# Altium footprint library TheRightUSBC.PcbLib: 1 footprints
Each footprint in its own frame and in the unit in brackets; x right, y up, seen from the top. Pads: shape width x height; smd on the part's side, far side on the other; paste and mask are expansions set on the pad; w line width, h text height; cw(c..) or ccw(c..) is an arc to the next point about the centre after c.
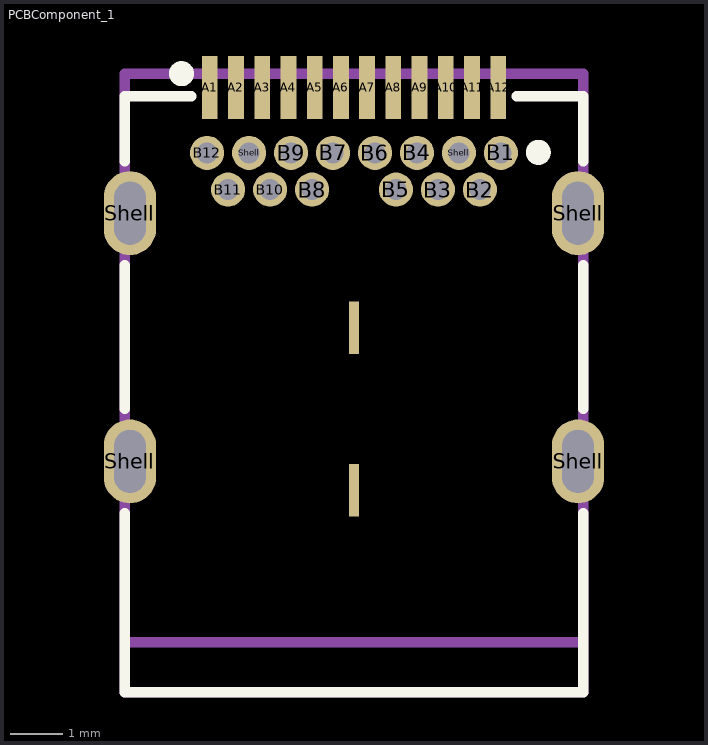
[diagram p0: the footprint, top view; thin cyan lines are the x and y axes]

## PCBComponent_1 [mm]
pads (32):
  rect 0.3x1.2 smd mask+0.102: A1(41.502,-3.001) A2(42.002,-3.001) A3(42.502,-3.001) A4(43.002,-3.001) A5(43.502,-3.001) A6(44.002,-3.001) A7(44.502,-3.001) A8(45.002,-3.001) A9(45.502,-3.001) A10(46.002,-3.001) A11(46.502,-3.001) A12(47.002,-3.001)
  round 0.65 hole 0.4 mask+0.2: B1(47.052,-4.251) B2(46.652,-4.951) B3(45.852,-4.951) B4(45.452,-4.251) B5(45.052,-4.951) B6(44.652,-4.251) B7(43.852,-4.251) B8(43.452,-4.951) B9(43.052,-4.251) B10(42.652,-4.951) B11(41.852,-4.951) B12(41.452,-4.251) Shell(42.252,-4.251) Shell(46.252,-4.251)
  oval 1x1.6 hole 0.6 slot 1.2 at 90 deg: Shell(39.982,-10.131) Shell(39.982,-5.401) Shell(48.522,-10.131) Shell(48.522,-5.401)
  rect 0.2x1 smd: ""(44.252,-10.681) ""(44.252,-7.581)
Top Overlay:
  circle w0.25: c47.764,-4.241 r0.114
  circle w0.25: c40.964,-2.741 r0.114
  lines w0.2: 39.882,-11.121 39.882,-14.531 48.622,-14.531 48.622,-11.121 ; 39.882,-9.131 39.882,-6.391 ; 39.882,-4.411 39.882,-3.171 41.152,-3.171 ; 47.352,-3.171 48.622,-3.171 48.622,-4.411 ; 48.622,-9.131 48.622,-6.391
Mechanical 13:
  lines w0.2: 39.882,-14.531 39.882,-2.741 48.622,-2.741 48.622,-14.531 39.882,-14.531
Mechanical 15:
  lines w0.2: 39.882,-13.581 48.622,-13.581
3D body "632723100011.stp": height 3.05, standoff -1.41, extent 39.882,-14.535 48.622,-2.741